# EAGLE library part F31L-1A7H1-11015 (library all-connectors)
F31L-1A7H1-11015 Amphenol Flex Connector, 0.50mm Pitch, Height 2.55mm, Right angle, Flip type, ZIF, 15 position , With MYLAR
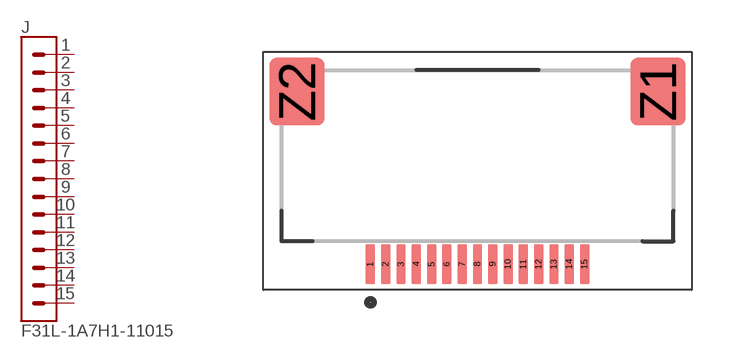
[diagram p10: symbol with the pads of FFC-15_0.50MM; footprint FFC-15_0.50MM]

Designator prefix J

## F31L-1A7H1-11015  [FFC-15_0.50MM]
1  1  pas
2  2  pas
3  3  pas
4  4  pas
5  5  pas
6  6  pas
7  7  pas
8  8  pas
9  9  pas
10  10  pas
11  11  pas
12  12  pas
13  13  pas
14  14  pas
15  15  pas

## Footprint FFC-15_0.50MM (pad centres in mm)
smd 0.3 x 1.3: 1 -3.5,-1.4; 2 -3,-1.4; 3 -2.5,-1.4; 4 -2,-1.4; 5 -1.5,-1.4; 6 -1,-1.4; 7 -0.5,-1.4; 8 0,-1.4; 9 0.5,-1.4; 10 1,-1.4; 11 1.5,-1.4; 12 2,-1.4; 13 2.5,-1.4; 14 3,-1.4; 15 3.5,-1.4
smd 1.8 x 2.2: Z1 5.9,4.25; Z2 -5.9,4.25